# Altium schematic symbol library Schlib1.SchLib: 16 symbols
Pins are listed as number, name and electrical type; pins without a type are passive.

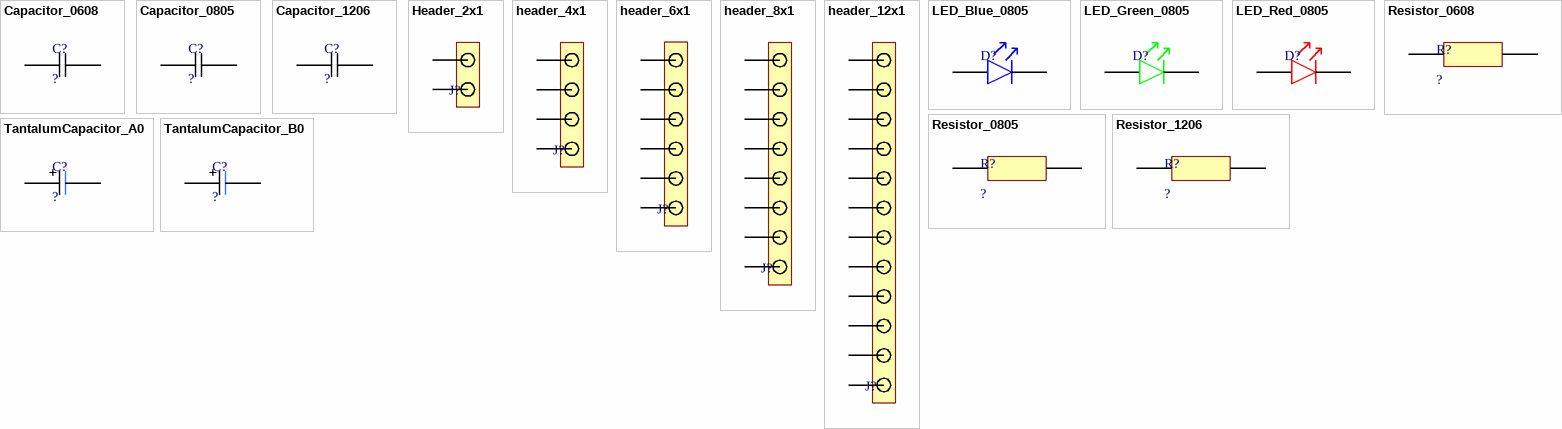
[diagram p0: symbols Capacitor_0608 to TantalumCapacitor_B0]

## Capacitor_0608
designator C?, comment ?
0805_DA/DB/EB; ComponentLink1Description: Datasheet; ComponentLink1URL: https://www.yageo.com/upload/media/product/productsearch/datasheet/mlcc/UPY-GPHC_X7R_6.3V-to-250V_24.pdf
footprint Capacitor_0603 (Chip Capacitor, 2-Leads, Body 1.60x0.80mm, IPC Medium Density)
pins: 1 16, 2 17

## Capacitor_0805
designator C?, comment ?
0805_E0/EA/EB; ComponentLink1Description: Datasheet; ComponentLink1URL: https://www.yageo.com/upload/media/product/productsearch/datasheet/mlcc/UPY-GPHC_X7R_6.3V-to-250V_24.pdf
footprint Capacitor_0805 (Chip Capacitor, 2-Leads, Body 2.00x1.25mm, IPC Medium Density)
pins: 1 16, 2 17

## Capacitor_1206
designator C?, comment ?
1206_F0/F1/FA/FB; ComponentLink1Description: Datasheet; ComponentLink1URL: https://www.yageo.com/upload/media/product/productsearch/datasheet/mlcc/UPY-GPHC_X7R_6.3V-to-250V_24.pdf
footprint Capacitor_1206 (Chip Capacitor, 2-Leads, Body 3.20x1.60mm, IPC Medium Density)
pins: 1 16, 2 17

## Header_2x1
designator J?  (value not drawn)
Connector Header Through Hole
pins: 1, 2

## header_4x1
designator J?  (value not drawn)
Connector Header Through Hole
pins: 1, 2, 3, 4

## header_6x1
designator J?  (value not drawn)
Connector Header Through Hole
pins: 1, 2, 3, 4, 5, 6

## header_8x1
designator J?  (value not drawn)
Connector Header Through Hole
pins: 1, 2, 3, 4, 5, 6, 7, 8

## header_12x1
designator J?  (value not drawn)
Connector Header Through Hole
pins: 1, 2, 3, 4, 5, 6, 7, 8, 9, 10, 11, 12

## LED_Blue_0805
designator D?
WL-SMCW SMT Mono-color Chip / LED Waterclear /; Color: Blue; ComponentLink1Description: Datasheet; ComponentLink1URL: https://www.we-online.com/components/products/datasheet/150080BS75000.pdf; Case size: 0805
footprint LED_0805 (Green/Blue/Red)
pins: 1 19, 2 20

## LED_Green_0805
designator D?
WL-SMCW SMT Mono-color Chip / LED Waterclear; Color: Green; ComponentLink1Description: Datasheet; ComponentLink1URL: https://www.we-online.com/components/products/datasheet/150080BS75000.pdf; Case size: 0805
footprint LED_0805 (Green/Blue/Red)
pins: 1 19, 2 20

## LED_Red_0805
designator D?
WL-SMCW SMT Mono-color Chip / LED Waterclear; Color: Red; Case size: 0805; ComponentLink1Description: Datasheet; ComponentLink1URL: https://www.we-online.com/components/products/datasheet/150080BS75000.pdf
footprint LED_0805 (Green/Blue/Red)
pins: 1 19, 2 20

## Resistor_0608
designator R?, comment ?
0608; ComponentLink1Description: Datasheet; ComponentLink1URL: https://www.yageo.com/upload/media/product/products/datasheet/rchip/PYu-RC_Group_51_RoHS_L_12.pdf
footprint Resistor_0603 (Chip Resistor, 2-Leads, Body 1.60x0.80mm, IPC Medium Density)
pins: 1 14, 2 15

## Resistor_0805
designator R?, comment ?
0805; ComponentLink1Description: Datasheet; ComponentLink1URL: https://www.yageo.com/upload/media/product/products/datasheet/rchip/PYu-RC_Group_51_RoHS_L_12.pdf
footprint Resistor_0805
pins: 1 14, 2 15

## Resistor_1206
designator R?, comment ?
1206; ComponentLink1Description: Datasheet; ComponentLink1URL: https://www.yageo.com/upload/media/product/products/datasheet/rchip/PYu-RC_Group_51_RoHS_L_12.pdf
footprint Resistor_1206
pins: 1 14, 2 15

## TantalumCapacitor_A0
designator C?, comment ?
A0 case
footprint TantalumCapacitors_A0 (A0 case, Molded Tantalum Capacitors 16 V)
pins: 1 16, 2 17
text: +

## TantalumCapacitor_B0
designator C?, comment ?
B0 case
footprint TantalumCapacitor_A1 (A1 case, Molded Tantalum Capacitor 16 V)
pins: 1 16, 2 17
text: +